# EAGLE library part MIC2027 (library 1dah)
4-ch 500mA USB current controller switch
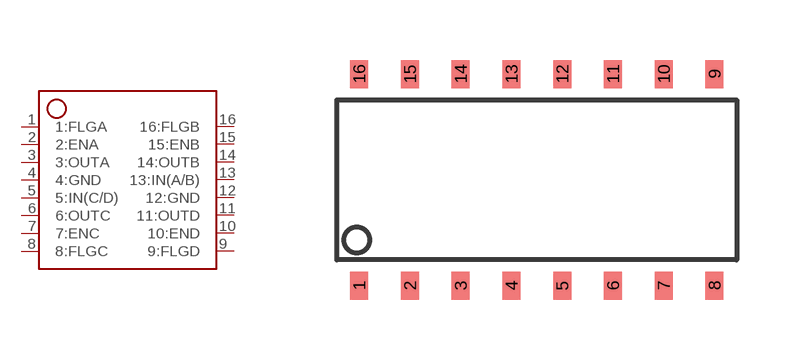
[diagram p63: symbol with the pads of SOIC16; footprint SOIC16]

Designator prefix -

## MIC2027  [SOIC16]
1  1:FLGA
2  2:ENA
3  3:OUTA
4  4:GND
5  5:IN(C/D)
6  6:OUTC
7  7:ENC
8  8:FLGC
9  9:FLGD
10  10:END
11  11:OUTD
12  12:GND
13  13:IN(A/B)
14  14:OUTB
15  15:ENB
16  16:FLGB

## Footprint SOIC16 (pad centres in mm)
smd 0.45 x 0.7: 1 -4.442,-2.644; 2 -3.172,-2.644; 3 -1.902,-2.644; 4 -0.632,-2.644; 5 0.638,-2.644; 6 1.908,-2.644; 7 3.178,-2.644; 8 4.448,-2.644; 9 4.448,2.646; 10 3.178,2.646; 11 1.908,2.646; 12 0.638,2.646; 13 -0.632,2.646; 14 -1.902,2.646; 15 -3.172,2.646; 16 -4.442,2.646